# Altium footprint library IC_SMD_DUAL.PCBLIB: 187 footprints (part 4 of 12)
Each footprint in its own frame and in the unit in brackets; x right, y up, seen from the top. Pads: shape width x height; smd on the part's side, far side on the other; paste and mask are expansions set on the pad; w line width, h text height; cw(c..) or ccw(c..) is an arc to the next point about the centre after c.
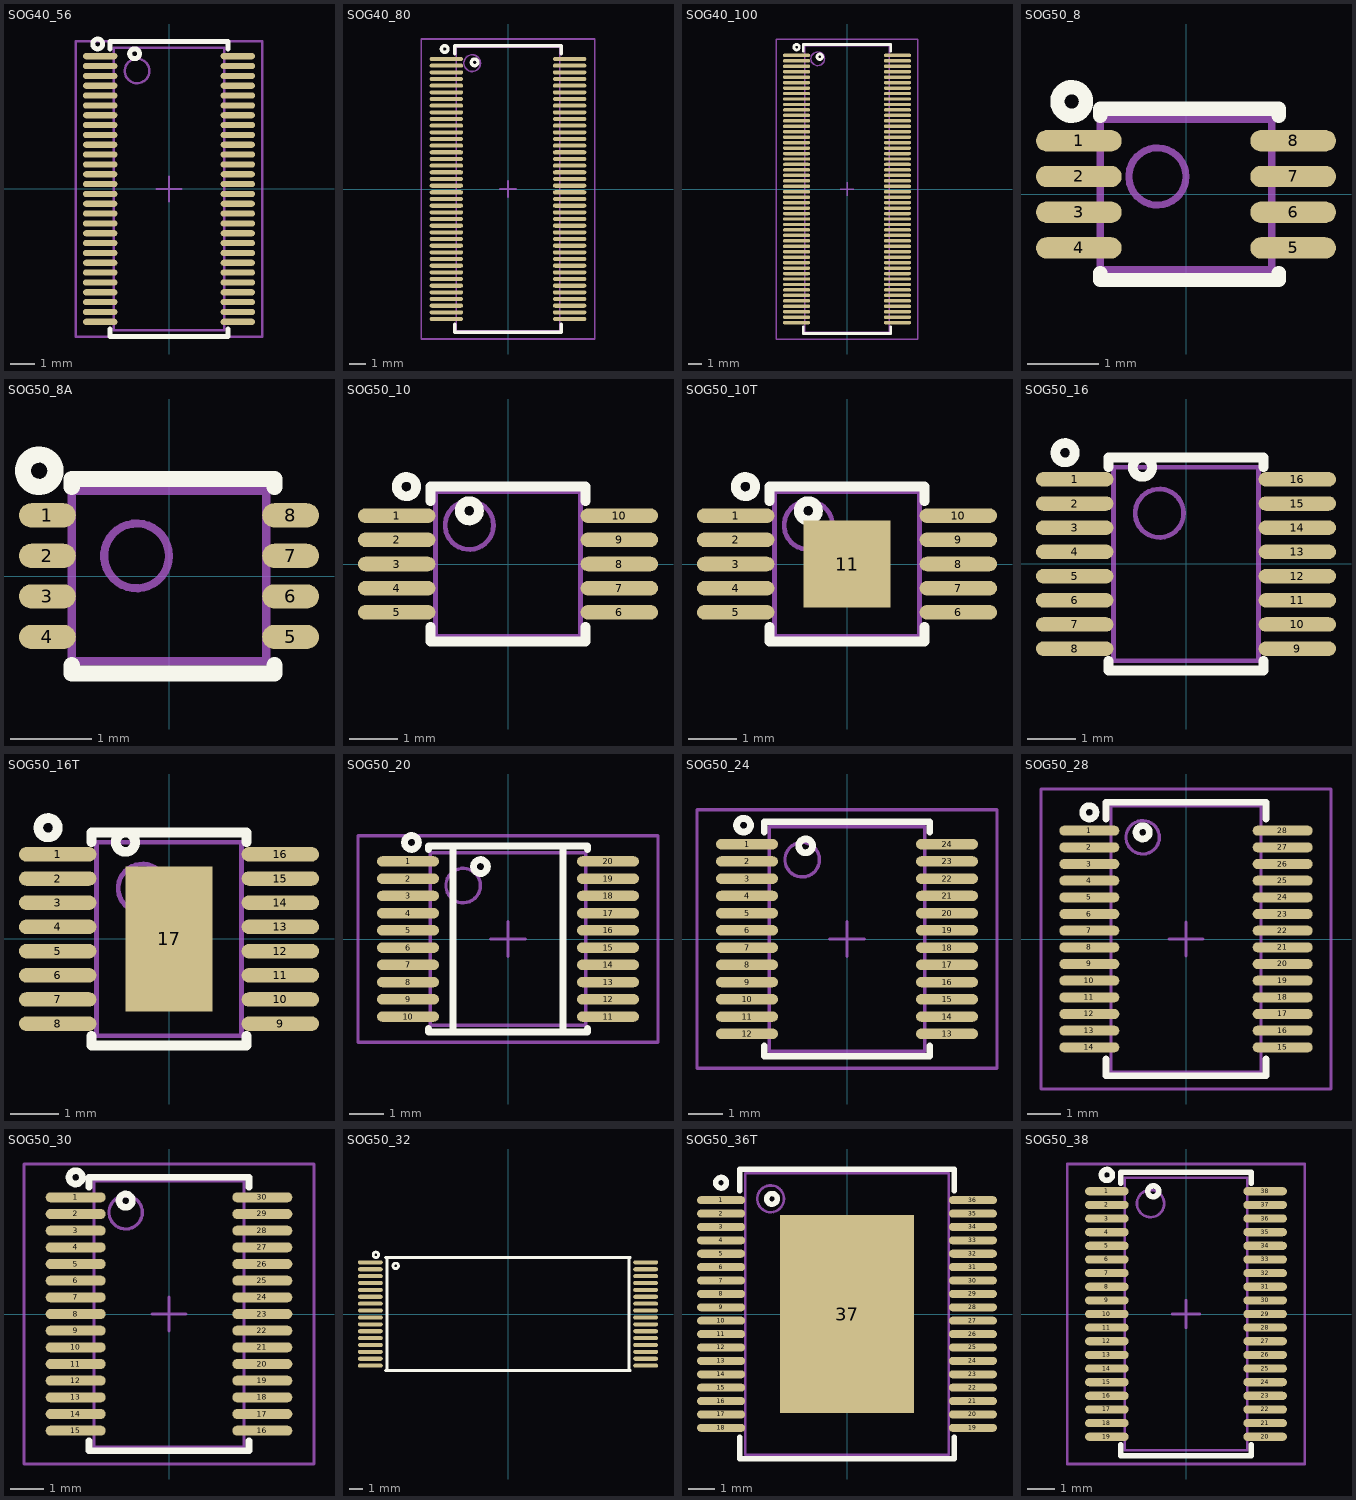
[diagram p3: the footprints below, top view; thin cyan lines are the x and y axes]

## SOG40_56 [mm] "TSSOP, 56Lead, pitch: 0.5mm, 11.5x4.4x1.2mm"
height 1.2
pads (56):
  oval 1.4x0.25 smd mask+0.05: 1(-2.8,5.4) 2(-2.8,5) 3(-2.8,4.6) 4(-2.8,4.2) 5(-2.8,3.8) 6(-2.8,3.4) 7(-2.8,3) 8(-2.8,2.6) 9(-2.8,2.2) 10(-2.8,1.8) 11(-2.8,1.4) 12(-2.8,1) 13(-2.8,0.6) 14(-2.8,0.2) 15(-2.8,-0.2) 16(-2.8,-0.6) 17(-2.8,-1) 18(-2.8,-1.4) 19(-2.8,-1.8) 20(-2.8,-2.2) 21(-2.8,-2.6) 22(-2.8,-3) 23(-2.8,-3.4) 24(-2.8,-3.8) 25(-2.8,-4.2) 26(-2.8,-4.6) 27(-2.8,-5) 28(-2.8,-5.4) 29(2.8,-5.4) 30(2.8,-5) 31(2.8,-4.6) 32(2.8,-4.2) 33(2.8,-3.8) 34(2.8,-3.4) 35(2.8,-3) 36(2.8,-2.6) 37(2.8,-2.2) 38(2.8,-1.8) 39(2.8,-1.4) 40(2.8,-1) 41(2.8,-0.6) 42(2.8,-0.2) 43(2.8,0.2) 44(2.8,0.6) 45(2.8,1) 46(2.8,1.4) 47(2.8,1.8) 48(2.8,2.2) 49(2.8,2.6) 50(2.8,3) 51(2.8,3.4) 52(2.8,3.8) 53(2.8,4.2) 54(2.8,4.6) 55(2.8,5) 56(2.8,5.4)
TopOverlay:
  circle w0.2: c-1.4,5.5 r0.2
  circle w0.2: c-2.9,5.9 r0.2
  lines w0.2: -2.4,-5.7 -2.4,-6 2.4,-6 2.4,-5.7 ; -2.4,5.7 -2.4,6 2.4,6 2.4,5.7
Mechanical13:
  circle w0.1: c-1.3,4.8 r0.5
  lines w0.1: -2.25,-5.75 2.25,-5.75 2.25,5.75 -2.25,5.75 -2.25,-5.75
Mechanical15:
  lines w0.1: -0.5,0 0.5,0 ; 0,-0.5 0,0.5 ; -3.8,-6 3.8,-6 3.8,6 -3.8,6 -3.8,-6
3D body "DGV0056A.stp": height 1.13, standoff 0, extent -3.2,-5.65 3.2,5.65

## SOG40_80 [mm] "DBB TSSOP (TI), MO-153 (JEDEC), 80Lead, pitch: 0.4mm, 17x6.1x1.2mm"
height 1.2
pads (80):
  oval 2x0.25 smd mask+0.05: 1(-3.7,7.8) 2(-3.7,7.4) 3(-3.7,7) 4(-3.7,6.6) 5(-3.7,6.2) 6(-3.7,5.8) 7(-3.7,5.4) 8(-3.7,5) 9(-3.7,4.6) 10(-3.7,4.2) 11(-3.7,3.8) 12(-3.7,3.4) 13(-3.7,3) 14(-3.7,2.6) 15(-3.7,2.2) 16(-3.7,1.8) 17(-3.7,1.4) 18(-3.7,1) 19(-3.7,0.6) 20(-3.7,0.2) 21(-3.7,-0.2) 22(-3.7,-0.6) 23(-3.7,-1) 24(-3.7,-1.4) 25(-3.7,-1.8) 26(-3.7,-2.2) 27(-3.7,-2.6) 28(-3.7,-3) 29(-3.7,-3.4) 30(-3.7,-3.8) 31(-3.7,-4.2) 32(-3.7,-4.6) 33(-3.7,-5) 34(-3.7,-5.4) 35(-3.7,-5.8) 36(-3.7,-6.2) 37(-3.7,-6.6) 38(-3.7,-7) 39(-3.7,-7.4) 40(-3.7,-7.8) 41(3.7,-7.8) 42(3.7,-7.4) 43(3.7,-7) 44(3.7,-6.6) 45(3.7,-6.2) 46(3.7,-5.8) 47(3.7,-5.4) 48(3.7,-5) 49(3.7,-4.6) 50(3.7,-4.2) 51(3.7,-3.8) 52(3.7,-3.4) 53(3.7,-3) 54(3.7,-2.6) 55(3.7,-2.2) 56(3.7,-1.8) 57(3.7,-1.4) 58(3.7,-1) 59(3.7,-0.6) 60(3.7,-0.2) 61(3.7,0.2) 62(3.7,0.6) 63(3.7,1) 64(3.7,1.4) 65(3.7,1.8) 66(3.7,2.2) 67(3.7,2.6) 68(3.7,3) 69(3.7,3.4) 70(3.7,3.8) 71(3.7,4.2) 72(3.7,4.6) 73(3.7,5) 74(3.7,5.4) 75(3.7,5.8) 76(3.7,6.2) 77(3.7,6.6) 78(3.7,7) 79(3.7,7.4) 80(3.7,7.8)
TopOverlay:
  circle w0.2: c-3.8,8.4 r0.2
  circle w0.2: c-2,7.6 r0.2
  lines w0.2: -3.2,-8.1 -3.2,-8.6 3.2,-8.6 3.2,-8.1 ; -3.2,8.1 -3.2,8.6 3.2,8.6 3.2,8.1
Mechanical13:
  circle w0.1: c-2.15,7.55 r0.5
  lines w0.1: -3.1,-8.5 -3.1,8.5 3.1,8.5 3.1,-8.5 -3.1,-8.5
Mechanical15:
  lines w0.1: -0.5,0 0.5,0 ; 0,-0.5 0,0.5 ; -5.2,-9 -5.2,9 5.2,9 5.2,-9 -5.2,-9
3D body: height 1.2, standoff 0.05, extent -3.1,-8.5 3.1,8.5

## SOG40_100 [mm] "DBB TSSOP (TI), MO-153 (JEDEC), 100Lead, pitch: 0.4mm, 21x6.1x1.2mm"
height 1.2
pads (100):
  oval 2x0.25 smd mask+0.05: 1(-3.7,9.8) 2(-3.7,9.4) 3(-3.7,9) 4(-3.7,8.6) 5(-3.7,8.2) 6(-3.7,7.8) 7(-3.7,7.4) 8(-3.7,7) 9(-3.7,6.6) 10(-3.7,6.2) 11(-3.7,5.8) 12(-3.7,5.4) 13(-3.7,5) 14(-3.7,4.6) 15(-3.7,4.2) 16(-3.7,3.8) 17(-3.7,3.4) 18(-3.7,3) 19(-3.7,2.6) 20(-3.7,2.2) 21(-3.7,1.8) 22(-3.7,1.4) 23(-3.7,1) 24(-3.7,0.6) 25(-3.7,0.2) 26(-3.7,-0.2) 27(-3.7,-0.6) 28(-3.7,-1) 29(-3.7,-1.4) 30(-3.7,-1.8) 31(-3.7,-2.2) 32(-3.7,-2.6) 33(-3.7,-3) 34(-3.7,-3.4) 35(-3.7,-3.8) 36(-3.7,-4.2) 37(-3.7,-4.6) 38(-3.7,-5) 39(-3.7,-5.4) 40(-3.7,-5.8) 41(-3.7,-6.2) 42(-3.7,-6.6) 43(-3.7,-7) 44(-3.7,-7.4) 45(-3.7,-7.8) 46(-3.7,-8.2) 47(-3.7,-8.6) 48(-3.7,-9) 49(-3.7,-9.4) 50(-3.7,-9.8) 51(3.7,-9.8) 52(3.7,-9.4) 53(3.7,-9) 54(3.7,-8.6) 55(3.7,-8.2) 56(3.7,-7.8) 57(3.7,-7.4) 58(3.7,-7) 59(3.7,-6.6) 60(3.7,-6.2) 61(3.7,-5.8) 62(3.7,-5.4) 63(3.7,-5) 64(3.7,-4.6) 65(3.7,-4.2) 66(3.7,-3.8) 67(3.7,-3.4) 68(3.7,-3) 69(3.7,-2.6) 70(3.7,-2.2) 71(3.7,-1.8) 72(3.7,-1.4) 73(3.7,-1) 74(3.7,-0.6) 75(3.7,-0.2) 76(3.7,0.2) 77(3.7,0.6) 78(3.7,1) 79(3.7,1.4) 80(3.7,1.8) 81(3.7,2.2) 82(3.7,2.6) 83(3.7,3) 84(3.7,3.4) 85(3.7,3.8) 86(3.7,4.2) 87(3.7,4.6) 88(3.7,5) 89(3.7,5.4) 90(3.7,5.8) 91(3.7,6.2) 92(3.7,6.6) 93(3.7,7) 94(3.7,7.4) 95(3.7,7.8) 96(3.7,8.2) 97(3.7,8.6) 98(3.7,9) 99(3.7,9.4) 100(3.7,9.8)
TopOverlay:
  circle w0.2: c-3.7,10.4 r0.2
  circle w0.2: c-2,9.7 r0.2
  lines w0.2: -3.2,-10.1 -3.2,-10.6 3.2,-10.6 3.2,-10.1 ; -3.2,10.1 -3.2,10.6 3.2,10.6 3.2,10.1
Mechanical13:
  circle w0.1: c-2.15,9.55 r0.5
  lines w0.1: -3.1,-10.5 -3.1,10.5 3.1,10.5 3.1,-10.5 -3.1,-10.5
Mechanical15:
  lines w0.1: -0.5,0 0.5,0 ; 0,-0.5 0,0.5 ; -5.2,-11 -5.2,11 5.2,11 5.2,-11 -5.2,-11
3D body: height 1.2, standoff 0.05, extent -3.1,-10.5 3.1,10.5

## SOG50_8 [mm] "VSSOP DCU US8  (TI), 8-Leads, 2.00x2.30mm, Pitch 0.50mm"
height 0.9
pads (8):
  oval 1.2x0.3 smd mask+0.05: 1(-1.5,0.75) 2(-1.5,0.25) 3(-1.5,-0.25) 4(-1.5,-0.75) 5(1.5,-0.75) 6(1.5,-0.25) 7(1.5,0.25) 8(1.5,0.75)
TopOverlay:
  circle w0.2: c-1.6,1.3 r0.2
  lines w0.2: -1.2,-1.1 -1.2,-1.2 1.3,-1.2 1.3,-1.1 ; -1.2,1.1 -1.2,1.2 1.3,1.2 1.3,1.1
Mechanical13:
  circle w0.1: c-0.4,0.25 r0.4
  lines w0.1: -1.2,-1.05 1.2,-1.05 1.2,1.05 -1.2,1.05 -1.2,-1.05
3D body "User Library-SOP50P310X90-8N[8US8_VSSOP_DCU_MO-187CA].step": height 0.9, standoff 0, extent -1.6,-1.05 1.6,1.05

## SOG50_8A [mm] "VSSOP DCU US8  (TI), 8-Leads, 2.00x2.30mm, Pitch 0.50mm"
height 0.9
pads (8):
  oval 0.7x0.3 smd mask+0.05: 1(-1.5,0.75) 2(-1.5,0.25) 3(-1.5,-0.25) 4(-1.5,-0.75) 5(1.5,-0.75) 6(1.5,-0.25) 7(1.5,0.25) 8(1.5,0.75)
TopOverlay:
  circle w0.2: c-1.6,1.3 r0.2
  lines w0.2: -1.2,-1.1 -1.2,-1.2 1.3,-1.2 1.3,-1.1 ; -1.2,1.1 -1.2,1.2 1.3,1.2 1.3,1.1
Mechanical13:
  circle w0.1: c-0.4,0.25 r0.4
  lines w0.1: -1.2,-1.05 -1.2,1.05 1.2,1.05 1.2,-1.05 -1.2,-1.05
3D body "User Library-SOP50P310X90-8N[8US8_VSSOP_DCU_MO-187CA].step": height 0.9, standoff 0, extent -1.6,-1.05 1.6,1.05

## SOG50_10 [mm] "VSSOP-10 DGS, 3X3mm 0.5mm pitch, MSOP10, 10uSOP/usop10 (Dallas), MO-187BA(JEDEC)"
pads (10):
  oval 1.6x0.3 smd mask+0.075: 1(-2.3,1) 2(-2.3,0.5) 3(-2.3,0) 4(-2.3,-0.5) 5(-2.3,-1) 6(2.3,-1) 7(2.3,-0.5) 8(2.3,0) 9(2.3,0.5) 10(2.3,1)
TopOverlay:
  circle w0.2: c-0.8,1.1 r0.2
  circle w0.2: c-2.1,1.6 r0.2
  lines w0.2: -1.6,-1.3 -1.6,-1.6 1.6,-1.6 1.6,-1.3 ; -1.6,1.3 -1.6,1.6 1.6,1.6 1.6,1.3
Mechanical13:
  circle w0.1: c-0.8,0.8 r0.5
  lines w0.1: -1.5,-1.5 1.5,-1.5 1.5,1.5 -1.5,1.5 -1.5,-1.5
3D body "User Library-MSOP-10-1.step": height 1.05, standoff 0, extent -2.514,-1.5 2.514,1.5

## SOG50_10T [mm] "HVSSOP-10 DGQ, MSOP10, 3X3mm 0.5mm pitch"
pads (11):
  oval 1.6x0.3 smd mask+0.075: 1(-2.3,1) 2(-2.3,0.5) 3(-2.3,0) 4(-2.3,-0.5) 5(-2.3,-1) 6(2.3,-1) 7(2.3,-0.5) 8(2.3,0) 9(2.3,0.5) 10(2.3,1)
  rect 1.8x1.8 smd paste-3: 11(0,0)
TopOverlay:
  circle w0.2: c-0.8,1.1 r0.2
  circle w0.2: c-2.1,1.6 r0.2
  lines w0.2: -1.6,-1.3 -1.6,-1.6 1.6,-1.6 1.6,-1.3 ; -1.6,1.3 -1.6,1.6 1.6,1.6 1.6,1.3
TopPaste:
  rectangle: -0.8,-0.8 -0.1,-0.1
  region: 0.8,-0.1 0.1,-0.1 0.1,-0.8 0.8,-0.8
  region: 0.8,0.8 0.1,0.8 0.1,0.1 0.8,0.1
  rectangle: -0.8,0.1 -0.1,0.8
Mechanical13:
  circle w0.1: c-0.8,0.8 r0.5
  lines w0.1: -1.5,-1.5 1.5,-1.5 1.5,1.5 -1.5,1.5 -1.5,-1.5
3D body "User Library-MSOP-10-1.step": height 1.05, standoff 0, extent -2.514,-1.5 2.514,1.5

## SOG50_16 [mm]
pads (16):
  oval 1.6x0.3 smd mask+0.075: 1(-2.3,1.75) 2(-2.3,1.25) 3(-2.3,0.75) 4(-2.3,0.25) 5(-2.3,-0.25) 6(-2.3,-0.75) 7(-2.3,-1.25) 8(-2.3,-1.75) 9(2.3,-1.75) 10(2.3,-1.25) 11(2.3,-0.75) 12(2.3,-0.25) 13(2.3,0.25) 14(2.3,0.75) 15(2.3,1.25) 16(2.3,1.75)
TopOverlay:
  circle w0.2: c-2.5,2.3 r0.2
  circle w0.2: c-0.9,2 r0.2
  lines w0.2: -1.6,-2 -1.6,-2.2 1.6,-2.2 1.6,-2 ; -1.6,2 -1.6,2.2 1.6,2.2 1.6,2
Mechanical13:
  circle w0.1: c-0.55,1.05 r0.5
  lines w0.1: -1.5,-2 1.5,-2 1.5,2 -1.5,2 -1.5,-2
3D body "LTC4364IMS-2#PBF.stp": height 1.1, standoff 0, extent -2.45,-2.019 2.45,2.02

## SOG50_16T [mm] "MSOP 16Lead, pitch: 0.5mm, 4x3x1.1mm"
height 1.1
pads (17):
  oval 1.6x0.3 smd mask+0.075: 1(-2.3,1.75) 2(-2.3,1.25) 3(-2.3,0.75) 4(-2.3,0.25) 5(-2.3,-0.25) 6(-2.3,-0.75) 7(-2.3,-1.25) 8(-2.3,-1.75) 9(2.3,-1.75) 10(2.3,-1.25) 11(2.3,-0.75) 12(2.3,-0.25) 13(2.3,0.25) 14(2.3,0.75) 15(2.3,1.25) 16(2.3,1.75)
  rect 1.8x3 smd paste-3: 17(0,0)
TopOverlay:
  circle w0.2: c-2.5,2.3 r0.2
  circle w0.2: c-0.9,2 r0.2
  lines w0.2: -1.6,-2 -1.6,-2.2 1.6,-2.2 1.6,-2 ; -1.6,2 -1.6,2.2 1.6,2.2 1.6,2
TopPaste:
  rectangle: -0.8,-1.4 -0.2,-0.2
  region: 0.8,-0.2 0.2,-0.2 0.2,-1.4 0.8,-1.4
  region: 0.8,1.4 0.2,1.4 0.2,0.2 0.8,0.2
  rectangle: -0.8,0.2 -0.2,1.4
Mechanical13:
  circle w0.1: c-0.55,1.05 r0.5
  lines w0.1: -1.5,-2 1.5,-2 1.5,2 -1.5,2 -1.5,-2
3D body "LTC4364IMS-2#PBF.stp": height 1.1, standoff 0, extent -2.45,-2.019 2.45,2.02

## SOG50_20 [mm] "DBT TSSOP (TI), MO-153 (JEDEC), 20Lead, pitch: 0.5mm, 5x4.4x1.2mm"
height 1.2
pads (20):
  oval 1.8x0.3 smd mask+0.075: 1(-2.9,2.25) 2(-2.9,1.75) 3(-2.9,1.25) 4(-2.9,0.75) 5(-2.9,0.25) 6(-2.9,-0.25) 7(-2.9,-0.75) 8(-2.9,-1.25) 9(-2.9,-1.75) 10(-2.9,-2.25) 11(2.9,-2.25) 12(2.9,-1.75) 13(2.9,-1.25) 14(2.9,-0.75) 15(2.9,-0.25) 16(2.9,0.25) 17(2.9,0.75) 18(2.9,1.25) 19(2.9,1.75) 20(2.9,2.25)
TopOverlay:
  circle w0.2: c-0.8,2.1 r0.2
  circle w0.2: c-2.8,2.8 r0.2
  lines w0.2: -2.3,-2.6 -2.3,-2.7 -1.6,-2.7 ; -2.3,2.6 -2.3,2.7 -1.6,2.7 ; 2.3,-2.6 2.3,-2.7 1.6,-2.7 ; 2.3,2.6 2.3,2.7 1.6,2.7 ; -1.6,-2.7 1.6,-2.7 ; -1.6,-2.7 -1.6,2.7 ; -1.6,2.7 1.6,2.7 ; 1.6,-2.7 1.6,2.7
Mechanical13:
  circle w0.1: c-1.3,1.55 r0.5
  lines w0.1: -2.25,-2.5 2.25,-2.5 2.25,2.5 -2.25,2.5 -2.25,-2.5
Mechanical15:
  lines w0.1: -0.5,0 0.5,0 ; 0,-0.5 0,0.5 ; -4.35,-3 4.35,-3 4.35,3 -4.35,3 -4.35,-3
3D body: height 1.2, standoff 0.05, extent -2.25,-2.5 2.25,2.5

## SOG50_24 [mm] "DBT TSSOP (TI), MO-153 (JEDEC), 24Lead, pitch: 0.5mm, 6.5x4.4x1.2mm"
height 1.2
pads (24):
  oval 1.8x0.3 smd mask+0.075: 1(-2.9,2.75) 2(-2.9,2.25) 3(-2.9,1.75) 4(-2.9,1.25) 5(-2.9,0.75) 6(-2.9,0.25) 7(-2.9,-0.25) 8(-2.9,-0.75) 9(-2.9,-1.25) 10(-2.9,-1.75) 11(-2.9,-2.25) 12(-2.9,-2.75) 13(2.9,-2.75) 14(2.9,-2.25) 15(2.9,-1.75) 16(2.9,-1.25) 17(2.9,-0.75) 18(2.9,-0.25) 19(2.9,0.25) 20(2.9,0.75) 21(2.9,1.25) 22(2.9,1.75) 23(2.9,2.25) 24(2.9,2.75)
TopOverlay:
  circle w0.2: c-3,3.3 r0.2
  circle w0.2: c-1.2,2.7 r0.2
  lines w0.2: -2.4,-3.1 -2.4,-3.4 2.4,-3.4 2.4,-3.1 ; -2.4,3.1 -2.4,3.4 2.4,3.4 2.4,3.1
Mechanical13:
  circle w0.1: c-1.3,2.3 r0.5
  lines w0.1: -2.25,-3.25 -2.25,3.25 2.25,3.25 2.25,-3.25 -2.25,-3.25
Mechanical15:
  lines w0.1: -0.5,0 0.5,0 ; 0,-0.5 0,0.5 ; -4.35,-3.75 -4.35,3.75 4.35,3.75 4.35,-3.75 -4.35,-3.75
3D body: height 1.2, standoff 0.05, extent -2.25,-3.25 2.25,3.25

## SOG50_28 [mm] "DBT TSSOP (TI), MO-153 (JEDEC), 28Lead, pitch: 0.5mm, 8x4.4x1.2mm"
height 1.2
pads (28):
  oval 1.8x0.3 smd mask+0.075: 1(-2.9,3.25) 2(-2.9,2.75) 3(-2.9,2.25) 4(-2.9,1.75) 5(-2.9,1.25) 6(-2.9,0.75) 7(-2.9,0.25) 8(-2.9,-0.25) 9(-2.9,-0.75) 10(-2.9,-1.25) 11(-2.9,-1.75) 12(-2.9,-2.25) 13(-2.9,-2.75) 14(-2.9,-3.25) 15(2.9,-3.25) 16(2.9,-2.75) 17(2.9,-2.25) 18(2.9,-1.75) 19(2.9,-1.25) 20(2.9,-0.75) 21(2.9,-0.25) 22(2.9,0.25) 23(2.9,0.75) 24(2.9,1.25) 25(2.9,1.75) 26(2.9,2.25) 27(2.9,2.75) 28(2.9,3.25)
TopOverlay:
  circle w0.2: c-1.3,3.2 r0.2
  circle w0.2: c-2.9,3.8 r0.2
  lines w0.2: -2.4,-3.6 -2.4,-4.1 2.4,-4.1 2.4,-3.6 ; -2.4,3.6 -2.4,4.1 2.4,4.1 2.4,3.6
Mechanical13:
  circle w0.1: c-1.3,3.05 r0.5
  lines w0.1: -2.25,-4 2.25,-4 2.25,4 -2.25,4 -2.25,-4
Mechanical15:
  lines w0.1: -0.5,0 0.5,0 ; 0,-0.5 0,0.5 ; -4.35,-4.5 4.35,-4.5 4.35,4.5 -4.35,4.5 -4.35,-4.5
3D body: height 1.2, standoff 0.05, extent -2.25,-4 2.25,4

## SOG50_30 [mm] "DBT TSSOP (TI), MO-153 (JEDEC), 30Lead, pitch: 0.5mm, 8x4.4x1.2mm"
height 1.2
pads (30):
  oval 1.8x0.3 smd mask+0.075: 1(-2.8,3.5) 2(-2.8,3) 3(-2.8,2.5) 4(-2.8,2) 5(-2.8,1.5) 6(-2.8,1) 7(-2.8,0.5) 8(-2.8,0) 9(-2.8,-0.5) 10(-2.8,-1) 11(-2.8,-1.5) 12(-2.8,-2) 13(-2.8,-2.5) 14(-2.8,-3) 15(-2.8,-3.5) 16(2.8,-3.5) 17(2.8,-3) 18(2.8,-2.5) 19(2.8,-2) 20(2.8,-1.5) 21(2.8,-1) 22(2.8,-0.5) 23(2.8,0) 24(2.8,0.5) 25(2.8,1) 26(2.8,1.5) 27(2.8,2) 28(2.8,2.5) 29(2.8,3) 30(2.8,3.5)
TopOverlay:
  circle w0.2: c-1.3,3.4 r0.2
  circle w0.2: c-2.8,4.1 r0.2
  lines w0.2: -2.4,-3.8 -2.4,-4.1 2.4,-4.1 2.4,-3.8 ; -2.4,3.8 -2.4,4.1 2.4,4.1 2.4,3.8
Mechanical13:
  circle w0.1: c-1.3,3.05 r0.5
  lines w0.1: -2.25,-4 2.25,-4 2.25,4 -2.25,4 -2.25,-4
Mechanical15:
  lines w0.1: -0.5,0 0.5,0 ; 0,-0.5 0,0.5 ; -4.35,-4.5 4.35,-4.5 4.35,4.5 -4.35,4.5 -4.35,-4.5
3D body "SW3dPS-TSSOP-30.STEP": height 1.12, standoff -0.02, extent -3.2,-3.95 3.2,3.95

## SOG50_32 [mm] "TSSOP, 32-Leads, Body 8.1x18.5mm (max), Pitch 0.50mm, IPC Low Density"
height 1.2
pads (32):
  oval 1.8x0.3 smd mask+0.075: 1(-10,3.75) 2(-10,3.25) 3(-10,2.75) 4(-10,2.25) 5(-10,1.75) 6(-10,1.25) 7(-10,0.75) 8(-10,0.25) 9(-10,-0.25) 10(-10,-0.75) 11(-10,-1.25) 12(-10,-1.75) 13(-10,-2.25) 14(-10,-2.75) 15(-10,-3.25) 16(-10,-3.75) 17(10,-3.75) 18(10,-3.25) 19(10,-2.75) 20(10,-2.25) 21(10,-1.75) 22(10,-1.25) 23(10,-0.75) 24(10,-0.25) 25(10,0.25) 26(10,0.75) 27(10,1.25) 28(10,1.75) 29(10,2.25) 30(10,2.75) 31(10,3.25) 32(10,3.75)
TopOverlay:
  circle w0.2: c-9.6,4.3 r0.2
  circle w0.2: c-8.16,3.495 r0.2
  lines w0.2: -8.9,-4.1 8.89,-4.1 ; -8.9,4.1 8.89,4.1 ; -8.8,-4.1 -8.8,4.1 ; 8.79,-4.1 8.79,4.1

## SOG50_36T [mm] "PowerSSO-36, pitch 0.5mm"
height 2.5
pads (37):
  oval 1.8x0.3 smd mask+0.075: 1(-4.7,4.25) 2(-4.7,3.75) 3(-4.7,3.25) 4(-4.7,2.75) 5(-4.7,2.25) 6(-4.7,1.75) 7(-4.7,1.25) 8(-4.7,0.75) 9(-4.7,0.25) 10(-4.7,-0.25) 11(-4.7,-0.75) 12(-4.7,-1.25) 13(-4.7,-1.75) 14(-4.7,-2.25) 15(-4.7,-2.75) 16(-4.7,-3.25) 17(-4.7,-3.75) 18(-4.7,-4.25) 19(4.7,-4.25) 20(4.7,-3.75) 21(4.7,-3.25) 22(4.7,-2.75) 23(4.7,-2.25) 24(4.7,-1.75) 25(4.7,-1.25) 26(4.7,-0.75) 27(4.7,-0.25) 28(4.7,0.25) 29(4.7,0.75) 30(4.7,1.25) 31(4.7,1.75) 32(4.7,2.25) 33(4.7,2.75) 34(4.7,3.25) 35(4.7,3.75) 36(4.7,4.25)
  rect 5x7.4 smd paste-5 mask+0.1: 37(0,0)
TopOverlay:
  circle w0.2: c-4.7,4.9 r0.2
  circle w0.2: c-2.8,4.3 r0.2
  lines w0.2: -4,-4.6 -4,-5.4 4,-5.4 4,-4.6 ; -4,4.6 -4,5.4 4,5.4 4,4.6
TopPaste:
  rectangle: -1.2,-1.2 -0.2,-0.2
  rectangle: -2.4,-2.4 -1.4,-1.4
  rectangle: -2.4,-3.6 -1.4,-2.6
  region: -2.4,-0.2 -2.4,-1.2 -1.4,-1.2 -1.4,-0.2
  rectangle: -1.2,-3.6 -0.2,-2.6
  rectangle: -1.2,-2.4 -0.2,-1.4
  region: 1.2,-1.4 0.2,-1.4 0.2,-2.4 1.2,-2.4
  region: 1.2,-2.6 0.2,-2.6 0.2,-3.6 1.2,-3.6
  region: 1.4,-0.2 1.4,-1.2 2.4,-1.2 2.4,-0.2
  region: 2.4,-2.6 1.4,-2.6 1.4,-3.6 2.4,-3.6
  region: 2.4,-1.4 1.4,-1.4 1.4,-2.4 2.4,-2.4
  region: 1.2,-0.2 0.2,-0.2 0.2,-1.2 1.2,-1.2
  region: 1.2,1.2 0.2,1.2 0.2,0.2 1.2,0.2
  region: 2.4,2.4 1.4,2.4 1.4,1.4 2.4,1.4
  region: 2.4,3.6 1.4,3.6 1.4,2.6 2.4,2.6
  region: 2.4,0.2 2.4,1.2 1.4,1.2 1.4,0.2
  region: 1.2,3.6 0.2,3.6 0.2,2.6 1.2,2.6
  region: 1.2,2.4 0.2,2.4 0.2,1.4 1.2,1.4
  rectangle: -1.2,1.4 -0.2,2.4
  rectangle: -1.2,2.6 -0.2,3.6
  region: -1.4,0.2 -1.4,1.2 -2.4,1.2 -2.4,0.2
  rectangle: -2.4,2.6 -1.4,3.6
  rectangle: -2.4,1.4 -1.4,2.4
  rectangle: -1.2,0.2 -0.2,1.2
Mechanical13:
  circle w0.1: c-2.85,4.3 r0.5
  lines w0.1: -3.8,-5.25 3.8,-5.25 3.8,5.25 -3.8,5.25 -3.8,-5.25
3D body: height 2.5, standoff 0.1, extent -3.8,-5.25 3.8,5.25

## SOG50_38 [mm] "38L TSSOP (MAXIM),38Lead, pitch: 0.5mm, 10x4.4x1.2mm"
height 1.2
pads (38):
  oval 1.6x0.3 smd mask+0.075: 1(-2.9,4.5) 2(-2.9,4) 3(-2.9,3.5) 4(-2.9,3) 5(-2.9,2.5) 6(-2.9,2) 7(-2.9,1.5) 8(-2.9,1) 9(-2.9,0.5) 10(-2.9,0) 11(-2.9,-0.5) 12(-2.9,-1) 13(-2.9,-1.5) 14(-2.9,-2) 15(-2.9,-2.5) 16(-2.9,-3) 17(-2.9,-3.5) 18(-2.9,-4) 19(-2.9,-4.5) 20(2.9,-4.5) 21(2.9,-4) 22(2.9,-3.5) 23(2.9,-3) 24(2.9,-2.5) 25(2.9,-2) 26(2.9,-1.5) 27(2.9,-1) 28(2.9,-0.5) 29(2.9,0) 30(2.9,0.5) 31(2.9,1) 32(2.9,1.5) 33(2.9,2) 34(2.9,2.5) 35(2.9,3) 36(2.9,3.5) 37(2.9,4) 38(2.9,4.5)
TopOverlay:
  circle w0.2: c-2.9,5.1 r0.2
  circle w0.2: c-1.2,4.5 r0.2
  lines w0.2: -2.4,-4.8 -2.4,-5.2 2.4,-5.2 2.4,-4.8 ; -2.4,4.8 -2.4,5.2 2.4,5.2 2.4,4.8
Mechanical13:
  circle w0.1: c-1.3,4.05 r0.5
  lines w0.1: -2.25,-5 -2.25,5 2.25,5 2.25,-5 -2.25,-5
Mechanical15:
  lines w0.1: -0.5,0 0.5,0 ; 0,-0.5 0,0.5 ; -4.35,-5.5 -4.35,5.5 4.35,5.5 4.35,-5.5 -4.35,-5.5
3D body "DBT0038A.stp": height 1.2, standoff 0, extent -3.205,-4.85 3.206,4.85